# Altium schematic symbol library Mechanical.SchLib: 2 symbols
Pins are listed as number, name and electrical type; pins without a type are passive.

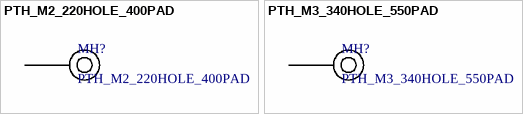
[diagram p0: symbols PTH_M2_220HOLE_400PAD to PTH_M3_340HOLE_550PAD]

## PTH_M2_220HOLE_400PAD
designator MH?  (no BOM)
Plated through hole for M2 screw, 2.20 mm hole, 4.00 mm pad
footprint PTH_M2_220HOLE_400PAD (Plated through hole for M2 screw, 2.20 mm hole, 4.00 mm pad)
pins: 1

## PTH_M3_340HOLE_550PAD
designator MH?  (no BOM)
Plated through hole for M3 screw, 3.40 mm hole, 5.50 mm pad
footprint PTH_M3_340HOLE_550PAD (Plated through hole for M3 screw, 3.40 mm hole, 5.50 mm pad)
pins: 1